# Altium schematic symbol library LT3501.SchLib: 1 symbol
Pins are listed as number, name and electrical type; pins without a type are passive.

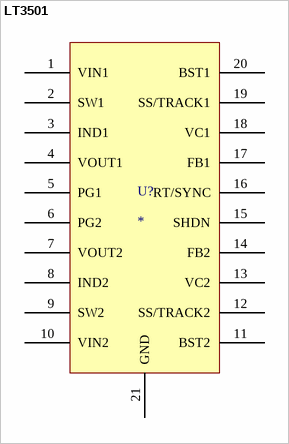
[diagram p0: symbol LT3501]

## LT3501
designator U?
Linear Technology LT3501 Monolithic Dual Tracking 3A Step-Down Switching Regulator; Manufacturer: Linear Technology; Part No.: LT3501; Price Est.: $5.41; Vendor: Linear Technology
pins: 1 VIN1, 2 SW1, 3 IND1, 4 VOUT1, 5 PG1, 6 PG2, 7 VOUT2, 8 IND2, 9 SW2, 10 VIN2, 11 BST2, 12 SS/TRACK2, 13 VC2, 14 FB2, 15 SHDN, 16 RT/SYNC, 17 FB1, 18 VC1, 19 SS/TRACK1, 20 BST1, 21 GND